# EAGLE library part IRXXXXS (library dc-dc-converter)
DC-DC CONVERTOR 3W
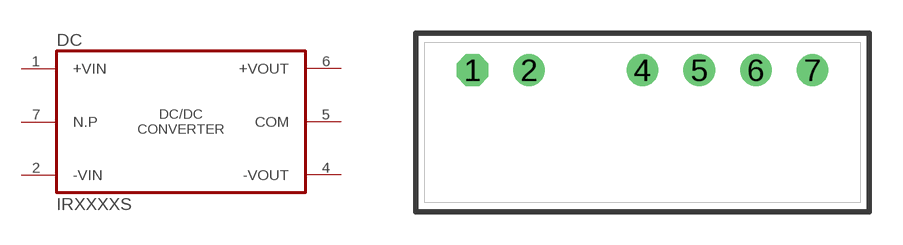
[diagram p13: symbol with the pads of IRXXXXS; footprint IRXXXXS]

Designator prefix DC

## IRXXXXS  [IRXXXXS]
1  +VIN  pas
2  -VIN  pas
4  -VOUT  pas
5  COM  pas
6  +VOUT  pas
7  N.P  pas

## Footprint IRXXXXS (pad centres in mm)
drill 0.61 pad 1.422 octagon: 1 -7.62,-1.25
drill 0.61 pad 1.422: 2 -5.08,-1.25; 4 0,-1.25; 5 2.54,-1.25; 6 5.08,-1.25; 7 7.62,-1.25